# Altium footprint library Fuel_Gauge.PcbLib: 2 footprints
Each footprint in its own frame and in the unit in brackets; x right, y up, seen from the top. Pads: shape width x height; smd on the part's side, far side on the other; paste and mask are expansions set on the pad; w line width, h text height; cw(c..) or ccw(c..) is an arc to the next point about the centre after c.
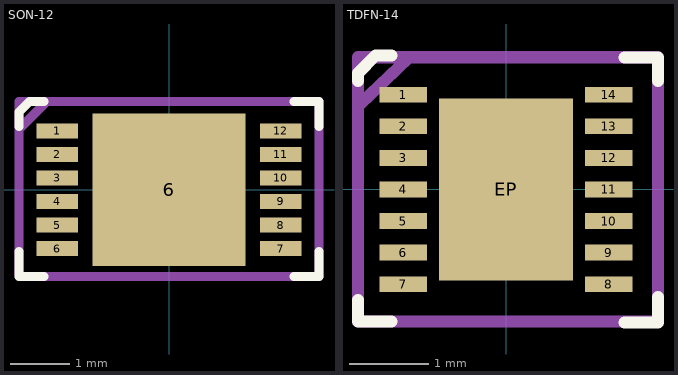
[diagram p0: the footprints below, top view; thin cyan lines are the x and y axes]

## SON-12 [mm]
pads (13):
  rect 0.7x0.25 smd: 1(-1.9,1) 2(-1.9,0.6) 3(-1.9,0.2) 4(-1.9,-0.2) 5(-1.9,-0.6) 6(-1.9,-1) 7(1.9,-1) 8(1.9,-0.6) 9(1.9,-0.2) 10(1.9,0.2) 11(1.9,0.6) 12(1.9,1)
  rect 2.6x2.6 smd: 6(0,0)
Top Overlay:
  lines w0.153: -2.548,-1.05 -2.548,-1.473 -2.125,-1.473 ; -2.548,1.075 -2.548,1.325 -2.375,1.498 -2.125,1.498 ; 2.125,-1.473 2.548,-1.473 2.548,-1.05 ; 2.125,1.498 2.548,1.498 2.548,1.075
Top Assembly:
  lines w0.153: -2.55,-1.45 -2.55,1.5 2.55,1.5 2.55,-1.475 -2.525,-1.475 ; -2.55,1.025 -2.075,1.5
Mechanical 15:
  lines w0.153: -2.55,-1.45 -2.55,1.5 2.55,1.5 2.55,-1.475 -2.525,-1.475 ; -2.55,1.025 -2.075,1.5 ; -0.325,0 0.325,0 ; 0,-0.325 0,0.325
3D body "SON-12-2.step": height 1, standoff -0.05, extent -2.075,-1.3 2.075,1.3

## TDFN-14 [mm]
pads (15):
  rect 0.6x0.2 smd: 1(-1.3,1.2) 2(-1.3,0.8) 3(-1.3,0.4) 4(-1.3,0) 5(-1.3,-0.4) 6(-1.3,-0.8) 7(-1.3,-1.2) 8(1.3,-1.2) 9(1.3,-0.8) 10(1.3,-0.4) 11(1.3,0) 12(1.3,0.4) 13(1.3,0.8) 14(1.3,1.2)
  rect 1.7x2.3 smd: EP(0,0)
Top Overlay:
  lines w0.153: -1.874,-1.4 -1.874,-1.673 -1.45,-1.673 ; -1.873,1.375 -1.873,1.475 -1.65,1.698 -1.45,1.698 ; 1.5,1.673 1.923,1.673 1.923,1.375 ; 1.502,-1.687 1.925,-1.687 1.925,-1.363
Top Assembly:
  lines w0.153: -1.85,1.075 -1.225,1.675 ; -1.875,-1.675 1.925,-1.675 1.925,1.675 -1.875,1.675 -1.875,-1.675
  text "'.Designator'" at -1.722,2.095 h0.8
Mechanical 15:
  lines w0.153: -1.85,1.075 -1.225,1.675 ; -0.325,0 0.325,0 ; 0,-0.325 0,0.325 ; -1.875,-1.675 1.925,-1.675 1.925,1.675 -1.875,1.675 -1.875,-1.675
3D body "MAX17205G+.STEP": height 0.77, standoff -0.03, extent -1.5,-1.5 1.5,1.5